# EAGLE library part HILFSSCHUETZ_13-14_21-22_31-32_43-44_OHNE_KONTAKTSPIEGEL (library e-schuetze-relais)
Hilfsschütz mit 2 Schließern und 2 Öffnern ohne Kontaktspiegel
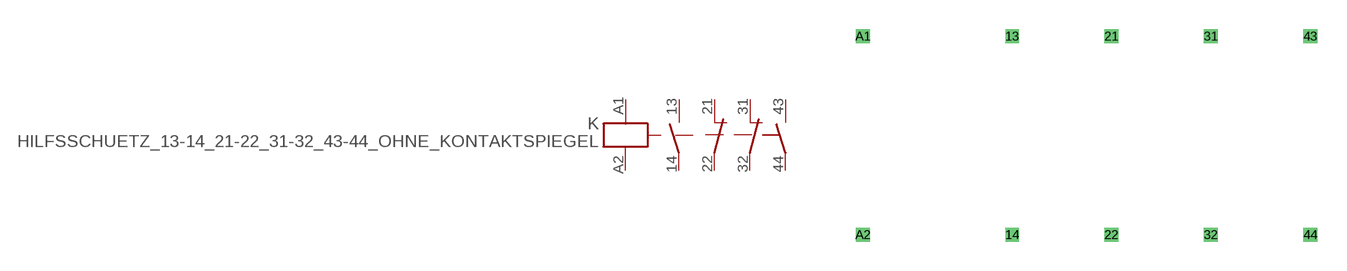
[diagram p1: symbol with the pads of HILFSSCHUETZ_13-14_21-22_31-32_43-44_OHNE_KONTAKTSPIEGEL; footprint HILFSSCHUETZ_13-14_21-22_31-32_43-44_OHNE_KONTAKTSPIEGEL]

Designator prefix K

## HILFSSCHUETZ_13-14_21-22_31-32_43-44_OHNE_KONTAKTSPIEGEL  [HILFSSCHUETZ_13-14_21-22_31-32_43-44_OHNE_KONTAKTSPIEGEL]
13  13  pas
14  14  pas
21  21  pas
22  22  pas
31  31  pas
32  32  pas
43  43  pas
44  44  pas
A1  A1  in
A2  A2  in

## Footprint HILFSSCHUETZ_13-14_21-22_31-32_43-44_OHNE_KONTAKTSPIEGEL (pad centres in mm)
Dummy
drill 0.2 pad 0.6 square: 13 7.62,5.08; 14 7.62,-5.08; 21 12.7,5.08; 22 12.7,-5.08; 31 17.78,5.08; 32 17.78,-5.08; 43 22.86,5.08; 44 22.86,-5.08; A1 0,5.08; A2 0,-5.08